# Altium footprint library jumper.PCBLIB: 40 footprints (part 3 of 3)
Each footprint in its own frame and in the unit in brackets; x right, y up, seen from the top. Pads: shape width x height; smd on the part's side, far side on the other; paste and mask are expansions set on the pad; w line width, h text height; cw(c..) or ccw(c..) is an arc to the next point about the centre after c.
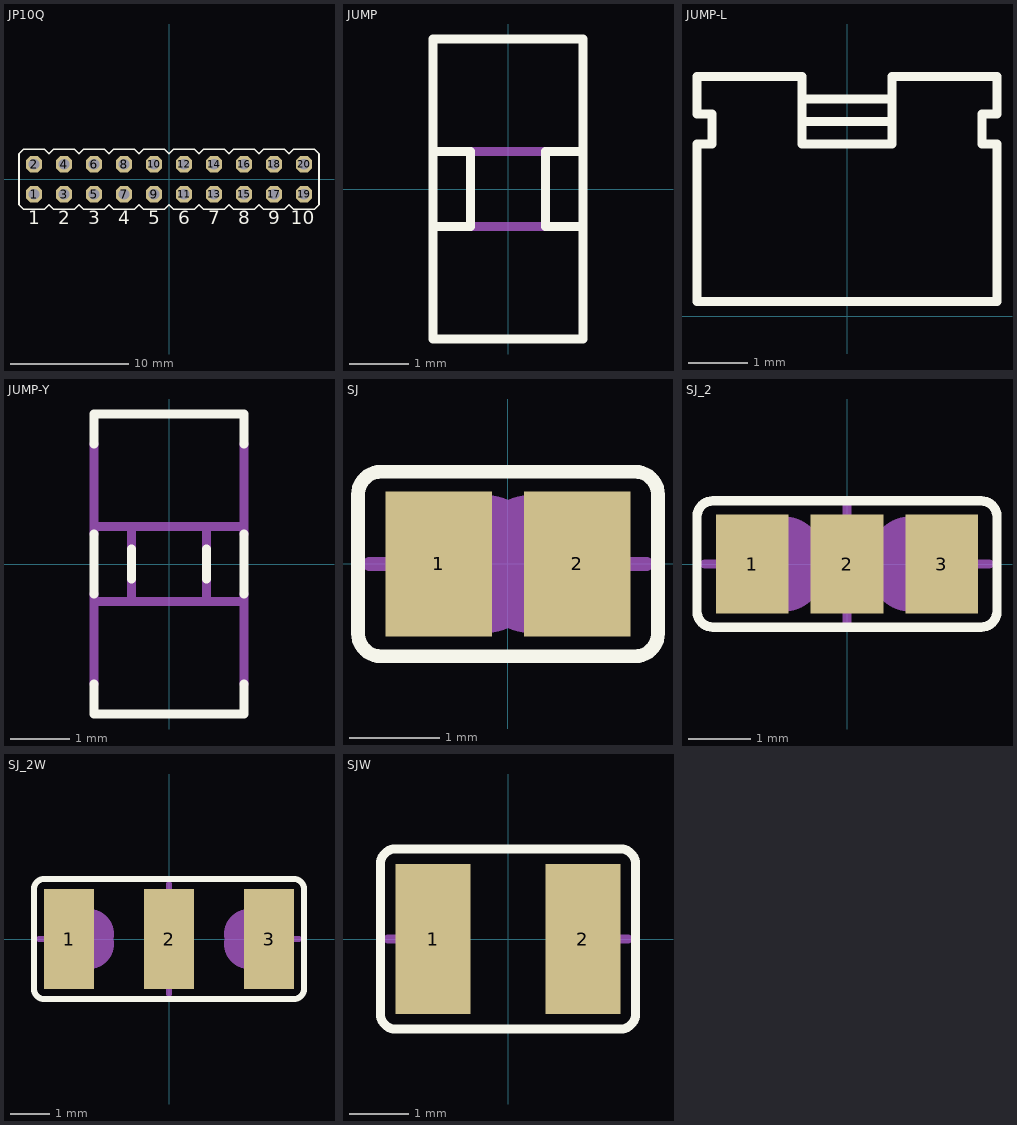
[diagram p2: the footprints below, top view; thin cyan lines are the x and y axes]

## JP10Q [mil]
pads (20):
  oct 54x54 hole 36: 1(-450,-50) 2(-450,50) 3(-350,-50) 4(-350,50) 5(-250,-50) 6(-250,50) 7(-150,-50) 8(-150,50) 9(-50,-50) 10(-50,50) 11(50,-50) 12(50,50) 13(150,-50) 14(150,50) 15(250,-50) 16(250,50) 17(350,-50) 18(350,50) 19(450,-50) 20(450,50)
Top Overlay:
  lines w6: -500,-85 -500,85 -485,100 -415,100 -400,85 -385,100 -315,100 -300,85 -285,100 -215,100 -200,85 -185,100 -115,100 -100,85 -85,100 -15,100 0,85 15,100 85,100 100,85 115,100 185,100 200,85 215,100 285,100 300,85 315,100 385,100 400,85 415,100 485,100 500,85 500,-85 485,-100 415,-100 400,-85 385,-100 315,-100 300,-85 285,-100 215,-100 200,-85 185,-100 115,-100 100,-85 85,-100 15,-100 0,-85 -15,-100 -85,-100 -100,-85 -115,-100 -185,-100 -200,-85 -215,-100 -285,-100 -300,-85 -315,-100 -385,-100 -400,-85 -415,-100 -485,-100 -500,-85
  text "1" at -470,-165 h77.5
  text "2" at -370,-165 h77.5
  text "3" at -270,-165 h77.5
  text "4" at -170,-165 h77.5
  text "5" at -70,-165 h77.5
  text "6" at 30,-165 h77.5
  text "7" at 130,-165 h77.5
  text "8" at 230,-165 h77.5
  text "9" at 330,-165 h77.5
  text "10" at 405,-165 h77.5
Mechanical 16:
  rectangle: -462,38 -438,62
  rectangle: -362,38 -338,62
  rectangle: -262,38 -238,62
  rectangle: -162,38 -138,62
  rectangle: -62,38 -38,62
  rectangle: 38,38 62,62
  rectangle: 138,38 162,62
  rectangle: 238,38 262,62
  rectangle: 338,38 362,62
  rectangle: -462,-62 -438,-38
  rectangle: -362,-62 -338,-38
  rectangle: -262,-62 -238,-38
  rectangle: -162,-62 -138,-38
  rectangle: -62,-62 -38,-38
  rectangle: 38,-62 62,-38
  rectangle: 138,-62 162,-38
  rectangle: 238,-62 262,-38
  rectangle: 338,-62 362,-38
  rectangle: 438,38 462,62
  rectangle: 438,-62 462,-38

## JUMP [mil]
Top Overlay:
  lines w6: -50,-25 -50,-100 50,-100 50,-25 ; -50,-25 -25,-25 -25,25 -50,25 ; -50,-25 -50,25 ; -50,25 -50,100 50,100 50,25 ; 50,-25 25,-25 25,25 50,25 ; 50,-25 50,25
Mechanical 16:
  lines w6: -25,-25 25,-25 ; -25,25 25,25

## JUMP-L [mil]
Top Overlay:
  lines w6: -30,130 30,130 ; -30,130 -30,145 ; -30,130 -30,115 30,115 30,130 ; -30,145 -30,160 -100,160 -100,135 -90,135 -90,115 -100,115 -100,10 100,10 100,115 90,115 90,135 100,135 100,160 30,160 30,145 ; -30,145 30,145 ; 30,130 30,145

## JUMP-Y [mil]
Top Overlay:
  lines w6: -50,-80 -50,-100 50,-100 50,-80 ; -50,-20 -50,20 ; -50,80 -50,100 50,100 50,80 ; -25,-10 -25,10 ; 25,-10 25,10 ; 50,-20 50,20
Mechanical 16:
  lines w6: -50,-80 -50,-25 ; -50,-20 -50,-25 ; -50,20 -50,25 ; -50,80 -50,25 ; -25,-10 -25,-25 ; -25,10 -25,25 ; 25,-10 25,-25 ; 25,10 25,25 ; 50,-80 50,-25 ; 50,-20 50,-25 ; 50,20 50,25 ; 50,80 50,25 ; -50,-25 -25,-25 ; -50,25 -25,25 ; -25,-25 25,-25 ; -25,25 25,25 ; 25,-25 50,-25 ; 25,25 50,25

## SJ [mil]
pads (2):
  rect 46x63 smd: 1(-30,0) 2(30,0)
Top Overlay:
  lines w6: -65,-30 ccw(c-55,-30) -55,-40 55,-40 ccw(c55,-30) 65,-30 65,30 ccw(c55,30) 55,40 -55,40 ccw(c-55,30) -65,30 -65,-30
Top Solder:
  rectangle: -3,-36 3,36
Mechanical 16:
  lines w6: -60,0 -40,0 ; 40,0 60,0
  lines w50: -10,-5 cw(c-10,0) -10,5 ; 10,-5 ccw(c10,0) 10,5

## SJ_2 [mil]
pads (3):
  rect 46x63 smd: 1(-60,0) 2(0,0) 3(60,0)
Top Overlay:
  lines w6: -95,-30 ccw(c-85,-30) -85,-40 85,-40 ccw(c85,-30) 95,-30 95,30 ccw(c85,30) 85,40 -85,40 ccw(c-85,30) -95,30 -95,-30
Mechanical 16:
  rectangle: -20,-30 20,30
  lines w6: -90,0 -70,0 ; 0,-40 0,-30 ; 0,30 0,40 ; 70,0 90,0
  lines w50: -40,-5 cw(c-40,0) -40,5 ; 40,-5 ccw(c40,0) 40,5

## SJ_2W [mil]
pads (3):
  rect 50x100 smd: 1(-100,0) 2(0,0) 3(100,0)
Top Overlay:
  lines w6: -135,-50 ccw(c-125,-50) -125,-60 125,-60 ccw(c125,-50) 135,-50 135,50 ccw(c125,50) 125,60 -125,60 ccw(c-125,50) -135,50 -135,-50
Mechanical 16:
  rectangle: -20,-30 20,30
  lines w6: -130,0 -110,0 ; 0,-55 0,-30 ; 0,30 0,55 ; 110,0 130,0
  lines w50: -80,-5 cw(c-80,0) -80,5 ; 80,-5 ccw(c80,0) 80,5

## SJW [mil]
pads (2):
  rect 50x100 smd: 1(-50,0) 2(50,0)
Top Overlay:
  lines w6: -85,-50 ccw(c-75,-50) -75,-60 75,-60 ccw(c75,-50) 85,-50 85,50 ccw(c75,50) 75,60 -75,60 ccw(c-75,50) -85,50 -85,-50
Mechanical 16:
  rectangle: 30,-30 40,30
  rectangle: 40,-25 50,25
  rectangle: 50,-20 55,20
  rectangle: 55,-10 60,10
  rectangle: -40,-30 -30,30
  rectangle: -50,-25 -40,25
  rectangle: -55,-20 -50,20
  rectangle: -60,-10 -55,10
  rectangle: 38,-28 43,-23
  rectangle: 53,-14 58,-9
  rectangle: 53,8 58,13
  rectangle: 38,23 43,28
  rectangle: -43,-28 -38,-23
  rectangle: -57,-13 -52,-8
  rectangle: -58,8 -53,13
  rectangle: -44,23 -39,28
  lines w6: -80,0 -60,0 ; 60,0 80,0 ; -30,-30 -30,30 ccw(c-30,0) -30,-30 ; 30,-30 30,30 cw(c30,0) 30,-30